# Altium schematic symbol library LTC4355.Schlib: 1 symbol
Pins are listed as number, name and electrical type; pins without a type are passive.

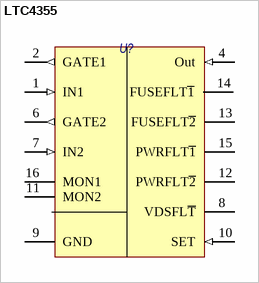
[diagram p0: symbol LTC4355]

## LTC4355
designator U?  (value not drawn)
Ideal Diode; Назначение: Идеальный диод; Потребление, Вт: 0,02; ComponentLink1Description: Data sheet; ComponentLink1URL: http://www.ti.com/lit/ds/symlink/ina226.pdf; Наименование: LTC4355; DataSheet: https://www.analog.com/media/en/technical-documentation/data-sheets/4355ff.pdf
footprint MSOP16
pins: 1 IN1 (in), 2 GATE1 (out), 4 Out (in) "Address pin. Connect to GND, SCL, SDA, or VS.", 6 GATE2 (out), 7 IN2 (in), 8 VDSFL~{T} (oc) "Address pin. Connect to GND, SCL, SDA, or VS.", 9 GND (power) "Ground.", 10 SET (in) "Address pin. Connect to GND, SCL, SDA, or VS.", 11 MON2, 12 PWRFLT~{2} (oc) "Address pin. Connect to GND, SCL, SDA, or VS.", 13 FUSEFLT~{2} (oc) "Address pin. Connect to GND, SCL, SDA, or VS.", 14 FUSEFLT~{1} (oc) "Address pin. Connect to GND, SCL, SDA, or VS.", 15 PWRFLT~{1} (oc) "Address pin. Connect to GND, SCL, SDA, or VS.", 16 MON1